# EAGLE library part AT32UC3B064/0128/0256 (library atmega-atxmega)
AT32UC3B0128/0256/0512
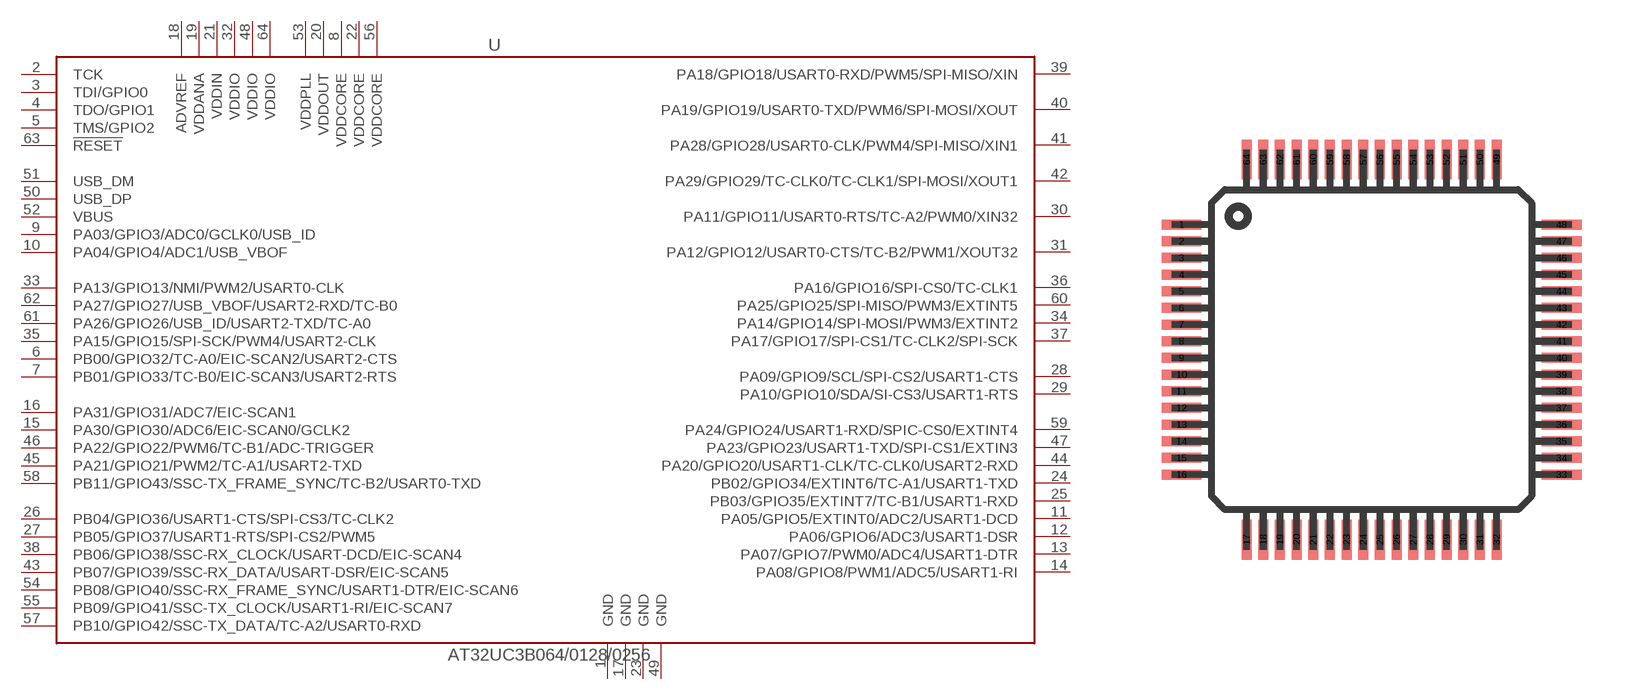
[diagram p92: symbol with the pads of TQFP64-10X10; footprint TQFP64-10X10]

Designator prefix U

## AT32UC3B064/0128/0256  [TQFP64-10X10]
1  GND  pwr
2  TCK  in
3  TDI/GPIO0
4  TDO/GPIO1
5  TMS/GPIO2
6  PB00/GPIO32/TC-A0/EIC-SCAN2/USART2-CTS
7  PB01/GPIO33/TC-B0/EIC-SCAN3/USART2-RTS
8  VDDCORE  pwr
9  PA03/GPIO3/ADC0/GCLK0/USB_ID
10  PA04/GPIO4/ADC1/USB_VBOF
11  PA05/GPIO5/EXTINT0/ADC2/USART1-DCD
12  PA06/GPIO6/ADC3/USART1-DSR  in
13  PA07/GPIO7/PWM0/ADC4/USART1-DTR  in
14  PA08/GPIO8/PWM1/ADC5/USART1-RI  in
15  PA30/GPIO30/ADC6/EIC-SCAN0/GCLK2  in
16  PA31/GPIO31/ADC7/EIC-SCAN1
17  GND  pwr
18  ADVREF  pwr
19  VDDANA  pwr
20  VDDOUT  pwr
21  VDDIN  pwr
22  VDDCORE  pwr
23  GND  pwr
24  PB02/GPIO34/EXTINT6/TC-A1/USART1-TXD
25  PB03/GPIO35/EXTINT7/TC-B1/USART1-RXD
26  PB04/GPIO36/USART1-CTS/SPI-CS3/TC-CLK2
27  PB05/GPIO37/USART1-RTS/SPI-CS2/PWM5
28  PA09/GPIO9/SCL/SPI-CS2/USART1-CTS  in
29  PA10/GPIO10/SDA/SI-CS3/USART1-RTS  in
30  PA11/GPIO11/USART0-RTS/TC-A2/PWM0/XIN32
31  PA12/GPIO12/USART0-CTS/TC-B2/PWM1/XOUT32
32  VDDIO  pwr
33  PA13/GPIO13/NMI/PWM2/USART0-CLK
34  PA14/GPIO14/SPI-MOSI/PWM3/EXTINT2
35  PA15/GPIO15/SPI-SCK/PWM4/USART2-CLK
36  PA16/GPIO16/SPI-CS0/TC-CLK1
37  PA17/GPIO17/SPI-CS1/TC-CLK2/SPI-SCK
38  PB06/GPIO38/SSC-RX_CLOCK/USART-DCD/EIC-SCAN4
39  PA18/GPIO18/USART0-RXD/PWM5/SPI-MISO/XIN
40  PA19/GPIO19/USART0-TXD/PWM6/SPI-MOSI/XOUT
41  PA28/GPIO28/USART0-CLK/PWM4/SPI-MISO/XIN1
42  PA29/GPIO29/TC-CLK0/TC-CLK1/SPI-MOSI/XOUT1
43  PB07/GPIO39/SSC-RX_DATA/USART-DSR/EIC-SCAN5
44  PA20/GPIO20/USART1-CLK/TC-CLK0/USART2-RXD
45  PA21/GPIO21/PWM2/TC-A1/USART2-TXD
46  PA22/GPIO22/PWM6/TC-B1/ADC-TRIGGER
47  PA23/GPIO23/USART1-TXD/SPI-CS1/EXTIN3
48  VDDIO  pwr
49  GND  pwr
50  USB_DP
51  USB_DM
52  VBUS  in
53  VDDPLL  pwr
54  PB08/GPIO40/SSC-RX_FRAME_SYNC/USART1-DTR/EIC-SCAN6
55  PB09/GPIO41/SSC-TX_CLOCK/USART1-RI/EIC-SCAN7
56  VDDCORE  pwr
57  PB10/GPIO42/SSC-TX_DATA/TC-A2/USART0-RXD
58  PB11/GPIO43/SSC-TX_FRAME_SYNC/TC-B2/USART0-TXD
59  PA24/GPIO24/USART1-RXD/SPIC-CS0/EXTINT4
60  PA25/GPIO25/SPI-MISO/PWM3/EXTINT5
61  PA26/GPIO26/USB_ID/USART2-TXD/TC-A0
62  PA27/GPIO27/USB_VBOF/USART2-RXD/TC-B0
63  !RESET
64  VDDIO  pwr

## Footprint TQFP64-10X10 (pad centres in mm)
Thin Quad Flat Pack package type TQ
smd 1.2 x 0.3: 1 -5.7,3.75; 2 -5.7,3.25; 3 -5.7,2.75; 4 -5.7,2.25; 5 -5.7,1.75; 6 -5.7,1.25; 7 -5.7,0.75; 8 -5.7,0.25; 9 -5.7,-0.25; 10 -5.7,-0.75; 11 -5.7,-1.25; 12 -5.7,-1.75; 13 -5.7,-2.25; 14 -5.7,-2.75; 15 -5.7,-3.25; 16 -5.7,-3.75; 33 5.7,-3.75; 34 5.7,-3.25; 35 5.7,-2.75; 36 5.7,-2.25; 37 5.7,-1.75; 38 5.7,-1.25; 39 5.7,-0.75; 40 5.7,-0.25; 41 5.7,0.25; 42 5.7,0.75; 43 5.7,1.25; 44 5.7,1.75; 45 5.7,2.25; 46 5.7,2.75; 47 5.7,3.25; 48 5.7,3.75
smd 0.3 x 1.2: 17 -3.75,-5.7; 18 -3.25,-5.7; 19 -2.75,-5.7; 20 -2.25,-5.7; 21 -1.75,-5.7; 22 -1.25,-5.7; 23 -0.75,-5.7; 24 -0.25,-5.7; 25 0.25,-5.7; 26 0.75,-5.7; 27 1.25,-5.7; 28 1.75,-5.7; 29 2.25,-5.7; 30 2.75,-5.7; 31 3.25,-5.7; 32 3.75,-5.7; 49 3.75,5.7; 50 3.25,5.7; 51 2.75,5.7; 52 2.25,5.7; 53 1.75,5.7; 54 1.25,5.7; 55 0.75,5.7; 56 0.25,5.7; 57 -0.25,5.7; 58 -0.75,5.7; 59 -1.25,5.7; 60 -1.75,5.7; 61 -2.25,5.7; 62 -2.75,5.7; 63 -3.25,5.7; 64 -3.75,5.7